# EAGLE library part 24FXXKL402 (library custom)
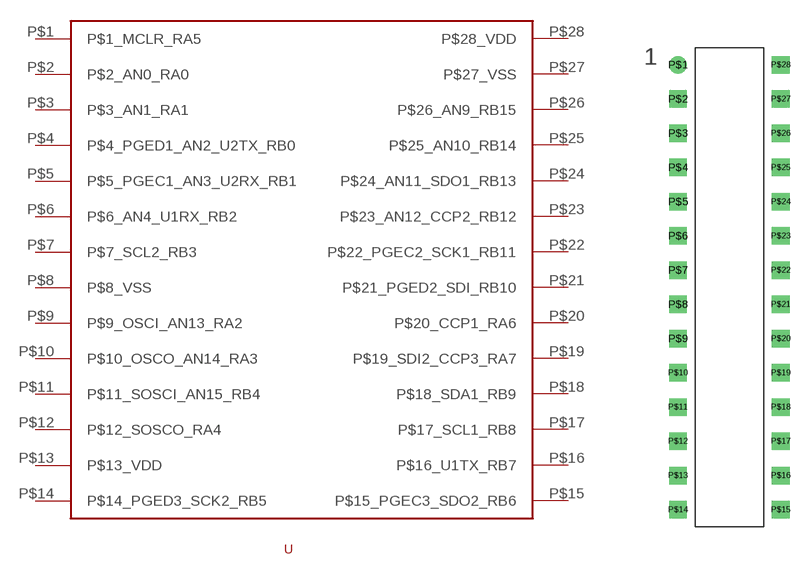
[diagram p42: symbol with the pads of SPDIP28_300; footprint SPDIP28_300]

Designator prefix -

## 24FXXKL402DIP  [SPDIP28_300]
P$1  P$1_MCLR_RA5
P$2  P$2_AN0_RA0
P$3  P$3_AN1_RA1
P$4  P$4_PGED1_AN2_U2TX_RB0
P$5  P$5_PGEC1_AN3_U2RX_RB1
P$6  P$6_AN4_U1RX_RB2
P$7  P$7_SCL2_RB3
P$8  P$8_VSS
P$9  P$9_OSCI_AN13_RA2
P$10  P$10_OSCO_AN14_RA3
P$11  P$11_SOSCI_AN15_RB4
P$12  P$12_SOSCO_RA4
P$13  P$13_VDD
P$14  P$14_PGED3_SCK2_RB5
P$15  P$15_PGEC3_SDO2_RB6
P$16  P$16_U1TX_RB7
P$17  P$17_SCL1_RB8
P$18  P$18_SDA1_RB9
P$19  P$19_SDI2_CCP3_RA7
P$20  P$20_CCP1_RA6
P$21  P$21_PGED2_SDI_RB10
P$22  P$22_PGEC2_SCK1_RB11
P$23  P$23_AN12_CCP2_RB12
P$24  P$24_AN11_SDO1_RB13
P$25  P$25_AN10_RB14
P$26  P$26_AN9_RB15
P$27  P$27_VSS
P$28  P$28_VDD

## Footprint SPDIP28_300 (pad centres in mm)
drill 0.8 round: P$1 -3.81,16.51
drill 0.8 square: P$2 -3.81,13.97; P$3 -3.81,11.43; P$4 -3.81,8.89; P$5 -3.81,6.35; P$6 -3.81,3.81; P$7 -3.81,1.27; P$8 -3.81,-1.27; P$9 -3.81,-3.81; P$10 -3.81,-6.35; P$11 -3.81,-8.89; P$12 -3.81,-11.43; P$13 -3.81,-13.97; P$14 -3.81,-16.51; P$15 3.81,-16.51; P$16 3.81,-13.97; P$17 3.81,-11.43; P$18 3.81,-8.89; P$19 3.81,-6.35; P$20 3.81,-3.81; P$21 3.81,-1.27; P$22 3.81,1.27; P$23 3.81,3.81; P$24 3.81,6.35; P$25 3.81,8.89; P$26 3.81,11.43; P$27 3.81,13.97; P$28 3.81,16.51